# Altium schematic symbol library TLV354.SchLib: 1 symbol
Pins are listed as number, name and electrical type; pins without a type are passive.

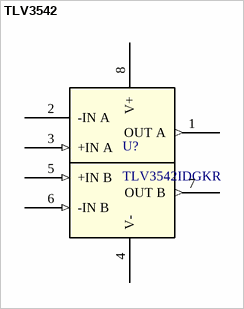
[diagram p0: symbol TLV3542]

## TLV3542
designator U?, comment TLV3542IDGKR
Dual , 200MHz, RRIO, CMOS Operational Amplifier; Vendor: Texas Instruments; Built_By: EMA_Molly; SourceLibrary: TI_2019-05-11; Manufacturer_Part_Number: TLV3542IDGKR; Copyright: Copyright (C) 2018 Accelerated Designs. All rights reserved; RefDes: RefDes; Type: DEV; ComponentLink1Description: Product Page; ComponentLink1URL: https://www.ti.com/product/TLV3542
footprint DGK8_TEX
footprint DGK8_TEX-L
footprint DGK8_TEX-M
pins: 1 OUT A (out), 2 -IN A, 3 +IN A (in), 4 V- (power), 5 +IN B (in), 6 -IN B (in), 7 OUT B (out), 8 V+ (power)